# EAGLE library part ADS1174PAP (library Zoli2_2015-02-22)
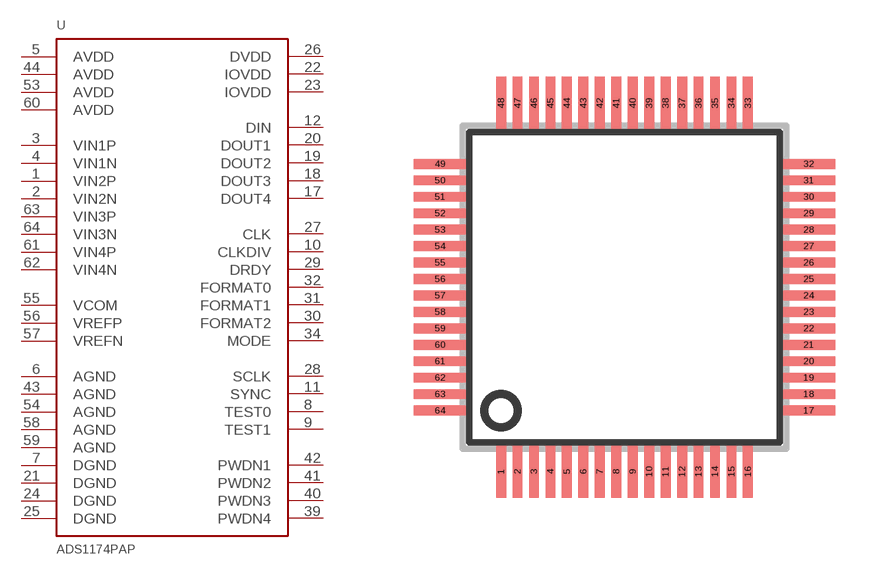
[diagram p59: symbol with the pads of SQFP-S-10X10-64; footprint SQFP-S-10X10-64]

Designator prefix -

## ADS1174PAPT  [SQFP-S-10X10-64]
1  VIN2P  in
2  VIN2N  in
3  VIN1P  in
4  VIN1N  in
5  AVDD  sup
6  AGND  sup
7  DGND  sup
8  TEST0  in
9  TEST1  in
10  CLKDIV  in
11  SYNC  in
12  DIN  in
17  DOUT4  out
18  DOUT3  out
19  DOUT2  out
20  DOUT1  out
21  DGND  sup
22  IOVDD  sup
23  IOVDD  sup
24  DGND  sup
25  DGND  sup
26  DVDD  sup
27  CLK  in
28  SCLK  in
29  DRDY  out
30  FORMAT2  in
31  FORMAT1  in
32  FORMAT0  in
34  MODE  in
39  PWDN4  in
40  PWDN3  in
41  PWDN2  in
42  PWDN1  in
43  AGND  sup
44  AVDD  sup
53  AVDD  sup
54  AGND  sup
55  VCOM  out
56  VREFP  in
57  VREFN  in
58  AGND  sup
59  AGND  sup
60  AVDD  sup
61  VIN4P  in
62  VIN4N  in
63  VIN3P  in
64  VIN3N  in

## Footprint SQFP-S-10X10-64 (pad centres in mm)
QFP64 shrink quad flat pack, square
smd 0.3 x 1.6: 1 -3.75,-5.6; 2 -3.25,-5.6; 3 -2.75,-5.6; 4 -2.25,-5.6; 5 -1.75,-5.6; 6 -1.25,-5.6; 7 -0.75,-5.6; 8 -0.25,-5.6; 9 0.25,-5.6; 10 0.75,-5.6; 11 1.25,-5.6; 12 1.75,-5.6; 13 2.25,-5.6; 14 2.75,-5.6; 15 3.25,-5.6; 16 3.75,-5.6; 33 3.75,5.6; 34 3.25,5.6; 35 2.75,5.6; 36 2.25,5.6; 37 1.75,5.6; 38 1.25,5.6; 39 0.75,5.6; 40 0.25,5.6; 41 -0.25,5.6; 42 -0.75,5.6; 43 -1.25,5.6; 44 -1.75,5.6; 45 -2.25,5.6; 46 -2.75,5.6; 47 -3.25,5.6; 48 -3.75,5.6
smd 1.6 x 0.3: 17 5.6,-3.75; 18 5.6,-3.25; 19 5.6,-2.75; 20 5.6,-2.25; 21 5.6,-1.75; 22 5.6,-1.25; 23 5.6,-0.75; 24 5.6,-0.25; 25 5.6,0.25; 26 5.6,0.75; 27 5.6,1.25; 28 5.6,1.75; 29 5.6,2.25; 30 5.6,2.75; 31 5.6,3.25; 32 5.6,3.75; 49 -5.6,3.75; 50 -5.6,3.25; 51 -5.6,2.75; 52 -5.6,2.25; 53 -5.6,1.75; 54 -5.6,1.25; 55 -5.6,0.75; 56 -5.6,0.25; 57 -5.6,-0.25; 58 -5.6,-0.75; 59 -5.6,-1.25; 60 -5.6,-1.75; 61 -5.6,-2.25; 62 -5.6,-2.75; 63 -5.6,-3.25; 64 -5.6,-3.75